# Altium schematic symbol library relays_reed.SchLib: 13 symbols
Pins are listed as number, name and electrical type; pins without a type are passive.

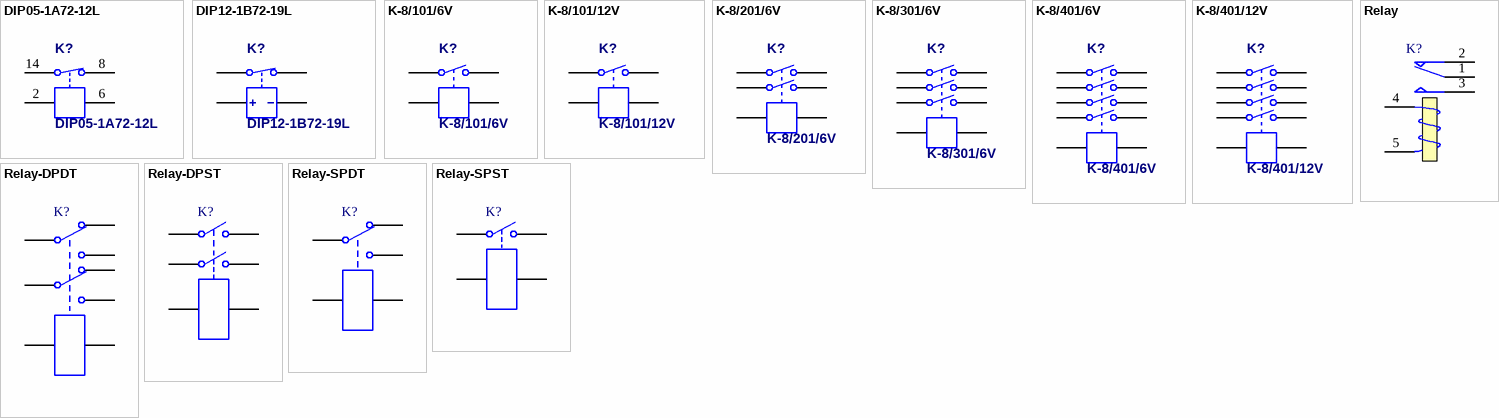
[diagram p0: symbols DIP05-1A72-12L to Relay-SPST]

## DIP05-1A72-12L
designator K?
Vsw=5V, Vdc=200V, Vpkac=200V, I=0,5A, R=150mOhm; Published: 24-Mar-1999; LatestRevisionDate: 17-Jul-2002; LatestRevisionNote: Re-released for DXP Platform.; PackageReference: MODULE4; Publisher: Altium Limited; Supplier 1: TME; Supplier Part Number 1: DIP12-1B72-19L
simulation model SPSTRELAY (Spice Subcircuit)
footprint DIPxx-xxxx-12x
pins: 2, 6, 8, 14
1 alternate drawing of the same symbol

## DIP12-1B72-19L
designator K?
Vsw=12V, Vdc=200V, Vpkac=200V, I=0,5A, R=150mOhm; Published: 24-Mar-1999; LatestRevisionDate: 17-Jul-2002; LatestRevisionNote: Re-released for DXP Platform.; PackageReference: MODULE4; Publisher: Altium Limited; Supplier 1: TME; Supplier Part Number 1: DIP12-1B72-19L
simulation model SPSTRELAY (Spice Subcircuit)
footprint DIPxx-xxxx-19x
pins: 1, 2, 6, 7
1 alternate drawing of the same symbol

## K-8/101/6V
designator K?
Vdc=200V, Vac=150V, I=0,5A, R=200mOhm; Published: 24-Mar-1999; LatestRevisionDate: 17-Jul-2002; LatestRevisionNote: Re-released for DXP Platform.; PackageReference: MODULE4; Publisher: Altium Limited
simulation model SPSTRELAY (Spice Subcircuit)
footprint K-8/1x1 (Dolam K-8/1x1 Serier Relay Reed)
pins: 1, 2, 3, 4

## K-8/101/12V
designator K?
Vdc=200V, Vac=150V, I=0,5A, R=200mOhm; Published: 24-Mar-1999; LatestRevisionDate: 17-Jul-2002; LatestRevisionNote: Re-released for DXP Platform.; PackageReference: MODULE4; Publisher: Altium Limited
simulation model SPSTRELAY (Spice Subcircuit)
footprint K-8/1x1 (Dolam K-8/1x1 Serier Relay Reed)
pins: 1, 2, 3, 4

## K-8/201/6V
designator K?
Vdc=200V, Vac=150V, I=0,5A, R=200mOhm; Published: 24-Mar-1999; LatestRevisionDate: 17-Jul-2002; LatestRevisionNote: Re-released for DXP Platform.; PackageReference: MODULE4; Publisher: Altium Limited
simulation model SPSTRELAY (Spice Subcircuit)
footprint K-8/2x1 (Dolam K-8/2x1 Serier Relay Reed)
pins: 1, 2, 3, 4, 5, 6

## K-8/301/6V
designator K?
Vdc=200V, Vac=150V, I=0,5A, R=200mOhm; Published: 24-Mar-1999; LatestRevisionDate: 17-Jul-2002; LatestRevisionNote: Re-released for DXP Platform.; PackageReference: MODULE4; Publisher: Altium Limited
simulation model SPSTRELAY (Spice Subcircuit)
footprint K-8/3x1 (Dolam K-8/3x1 Serier Relay Reed)
pins: 1, 2, 3, 4, 5, 6, 7, 8

## K-8/401/6V
designator K?
Vdc=200V, Vac=150V, I=0,5A, R=200mOhm; Published: 24-Mar-1999; LatestRevisionDate: 17-Jul-2002; LatestRevisionNote: Re-released for DXP Platform.; PackageReference: MODULE4; Publisher: Altium Limited
simulation model SPSTRELAY (Spice Subcircuit)
footprint K-8/4x1 (Dolam K-8/4x1 Serier Relay Reed)
pins: 1, 2, 3, 4, 5, 6, 7, 8, 9, 10

## K-8/401/12V
designator K?
Vdc=200V, Vac=150V, I=0,5A, R=200mOhm; Published: 24-Mar-1999; LatestRevisionDate: 17-Jul-2002; LatestRevisionNote: Re-released for DXP Platform.; PackageReference: MODULE4; Publisher: Altium Limited
simulation model SPSTRELAY (Spice Subcircuit)
footprint K-8/4x1 (Dolam K-8/4x1 Serier Relay Reed)
pins: 1, 2, 3, 4, 5, 6, 7, 8, 9, 10

## Relay
designator K?
SPDT Relay; Published: 8-Jun-2000; LatestRevisionDate: 17-Jul-2002; LatestRevisionNote: Re-released for DXP Platform.; PackageReference: MODULE5B; Publisher: Altium Limited
footprint MODULE5B (DIP; 5 Round Pins; Row Space 15.24 mm; Pitch 2.54 mm)
simulation model SPDTRELAY (Spice Subcircuit)
pins: 1 COM, 2 NC, 3 NO, 4 T1, 5 T2

## Relay-DPDT
designator K?
Dual-Pole Dual-Throw Relay; Published: 24-Mar-1999; LatestRevisionDate: 17-Jul-2002; LatestRevisionNote: Re-released for DXP Platform.; PackageReference: DIP-P8; Publisher: Altium Limited; PackageDescription: Relay; 8 Leads
footprint DIP-P8 (Dual-Pole Dual-Throw Relay; 8 Leads)
simulation model DPDTRELAY (Spice Subcircuit)
pins: 1, 2, 3, 4, 5, 6, 7, 8

## Relay-DPST
designator K?
Dual-Pole Single-Throw Relay; Published: 24-Mar-1999; LatestRevisionDate: 17-Jul-2002; LatestRevisionNote: Re-released for DXP Platform.; PackageReference: MODULE6; Publisher: Altium Limited
footprint MODULE6 (DIP; 6 Round Pins; Row Space 20.32 mm; Pitch 2.54 mm)
simulation model DPSTRELAY (Spice Subcircuit)
pins: 1, 2, 3, 4, 5, 6

## Relay-SPDT
designator K?
Single-Pole Dual-Throw Relay; Published: 24-Mar-1999; LatestRevisionDate: 17-Jul-2002; LatestRevisionNote: Re-released for DXP Platform.; PackageReference: MODULE5B; Publisher: Altium Limited
footprint MODULE5B (DIP; 5 Round Pins; Row Space 15.24 mm; Pitch 2.54 mm)
simulation model SPDTRELAY (Spice Subcircuit)
pins: 1, 2, 3, 4, 5

## Relay-SPST
designator K?
Single-Pole Single-Throw Relay; Published: 24-Mar-1999; LatestRevisionDate: 17-Jul-2002; LatestRevisionNote: Re-released for DXP Platform.; PackageReference: MODULE4; Publisher: Altium Limited
footprint MODULE4 (DIP; 4 Round Pins; Row Space 27.94 mm; Pitch 15.24 mm)
simulation model SPSTRELAY (Spice Subcircuit)
pins: 1, 2, 3, 4